# Altium footprint library Header.PcbLib: 119 footprints (part 8 of 8)
Each footprint in its own frame and in the unit in brackets; x right, y up, seen from the top. Pads: shape width x height; smd on the part's side, far side on the other; paste and mask are expansions set on the pad; w line width, h text height; cw(c..) or ccw(c..) is an arc to the next point about the centre after c.
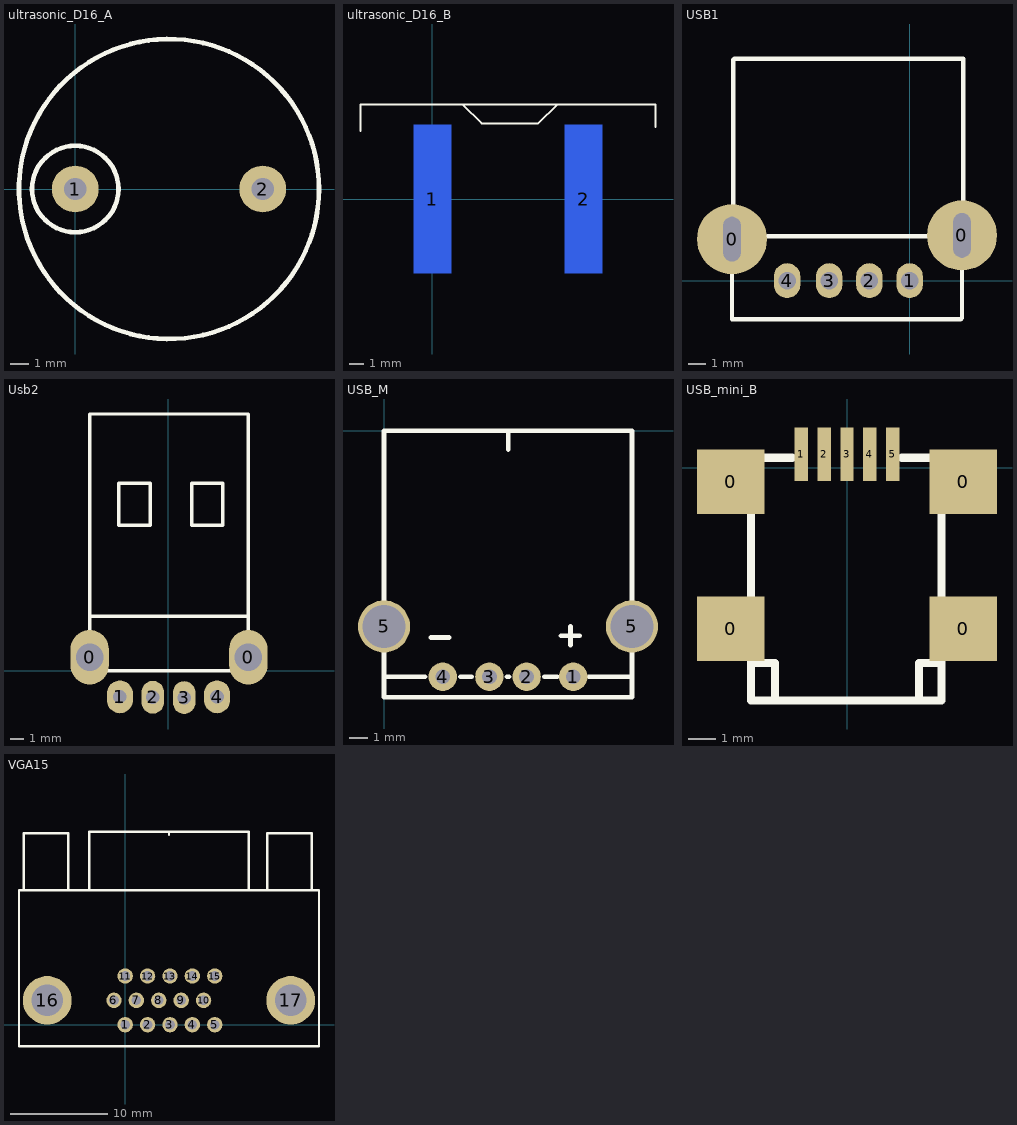
[diagram p7: the footprints below, top view; thin cyan lines are the x and y axes]

## ultrasonic_D16_A [mm]
pads (2):
  round 2.54 hole 1.2: 1(0,0) 2(10.16,0)
Top Overlay:
  circle w0.254: c5.08,0 r8.128
  circle w0.254: c0,0 r2.342

## ultrasonic_D16_B [mm]
pads (2):
  rect 2.5x10 smd far side: 1(0,0) 2(10.16,0)
Top Overlay:
  lines w0.127: -4.826,4.572 -4.826,6.35 14.986,6.35 14.986,4.826 ; 2.032,6.35 3.302,5.08 7.112,5.08 8.382,6.35

## USB1 [mm]
pads (6):
  round 4 hole 1 slot 2.54 at 90 deg: 0(-10.15,2.375) 0(2.991,2.586)
  oval 1.5x2 hole 1: 1(0,0) 2(-2.302,0) 3(-4.596,0) 4(-7,0)
Top Overlay:
  lines w0.254: -10.15,2.375 -10.15,-2.197 2.925,-2.197 2.991,-2.131 2.991,2.586 ; -10.084,2.718 -10.084,12.116 -10.084,12.624 ; -10.033,12.675 3.073,12.675 3.073,2.718 ; -8.128,2.54 1.016,2.54

## Usb2 [mm]
pads (6):
  oval 2.8x4 hole 2: 0(-5.766,1) 0(5.842,1)
  oval 1.9x2.4 hole 1: 1(-3.556,-1.905) 4(3.556,-1.905)
  oval 1.65x2.4 hole 1: 2(-1.15,-1.93) 3(1.15,-1.956)
Top Overlay:
  lines w0.254: -5.766,4 5.766,4 ; -5.766,18.796 -5.766,0 5.766,0 ; -5.715,18.796 5.842,18.796 5.842,0 ; -1.854,13.716 -1.346,13.716 ; 3.48,13.716 3.988,13.716 ; 3.988,18.796 4.496,18.796 ; -1.346,13.716 -3.632,13.716 -3.632,10.668 -1.6,10.668 -1.346,10.668 -1.346,10.922 -1.346,13.716 ; 3.988,13.716 1.702,13.716 1.702,10.668 3.734,10.668 3.988,10.668 3.988,10.922 3.988,13.716

## USB_M [mm]
pads (6):
  round 1.524 hole 0.8: 1(10.15,-13.2) 2(7.65,-13.2) 3(5.65,-13.2) 4(3.15,-13.2)
  round 2.8 hole 2.3: 5(0,-10.5) 5(13.3,-10.5)
Top Overlay:
  lines w0.254: 0,-13.2 2.2,-13.2 ; 2.5,-11.1 3.5,-11.1 ; 4.1,-13.2 4.7,-13.2 ; 6.6,-13.2 6.7,-13.2 ; 6.66,-1 6.66,0 ; 8.6,-13.2 9.3,-13.2 ; 9.5,-11 10.5,-11 ; 10,-11.5 10,-10.5 ; 11,-13.2 13.3,-13.2 ; 0,-14.3 13.3,-14.3 13.3,0 0,0 0,-14.3
3D body: height 7.55, standoff -3.3, extent -1.245,-14.3 14.555,-0.14

## USB_mini_B [mm] "mini USB ĸͷ"
pads (9):
  rect 2.5x2.4 smd: 0(-4.318,-5.969) 0(-4.318,-0.508) 0(4.318,-5.969) 0(4.318,-0.508)
  rect 0.5x2 smd: 1(-1.7,0.508) 2(-0.85,0.508) 3(0,0.508) 4(0.85,0.508) 5(1.7,0.508)
Top Overlay:
  lines w0.3: -3.556,-7.239 -2.667,-7.239 -2.667,-8.636 ; -2.032,0.381 -3.556,0.381 -3.556,-8.636 3.505,-8.636 3.505,0.381 2.032,0.381 ; 2.667,-8.636 2.667,-7.239 3.505,-7.239

## VGA15 [mm]
pads (17):
  round 1.58 hole 1: 1(0,0) 2(2.3,0) 3(4.6,0) 4(6.9,0) 5(9.2,0) 6(-1.15,2.5) 7(1.15,2.5) 8(3.45,2.5) 9(5.75,2.5) 10(8.05,2.5) 11(0,5) 12(2.3,5) 13(4.6,5) 14(6.9,5) 15(9.2,5)
  round 5 hole 3.25: 16(-8,2.5) 17(17,2.5)
Top Overlay:
  lines w0.254: -10.9,-2.2 -10.9,13.8 19.9,13.8 19.9,-2.2 -10.89,-2.2 -10.9,-2.19 ; -10.4,13.8 -10.4,19.67 -5.83,19.67 -5.83,13.82 ; -3.7,13.8 -3.7,19.8 12.7,19.8 12.7,13.8 ; 4.5,19.5 4.5,19.8 ; 14.6,13.8 14.6,19.68 19.18,19.68 19.18,13.84
3D body: height 12.77, standoff -3.27, extent -11.055,-0.875 19.755,20.225